# EAGLE library part MS5611 (library misc)
BAROMETRIC PRESSURE SENSOR
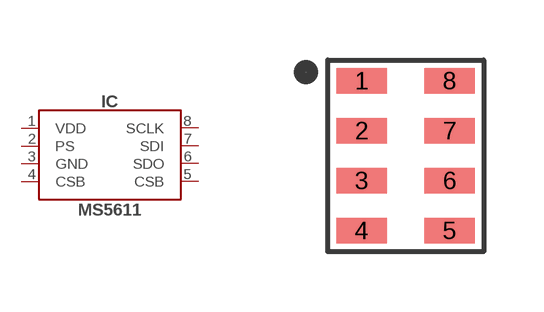
[diagram p39: symbol with the pads of MS5611; footprint MS5611]

Designator prefix IC

## MS5611 (DIGIKEY#: 223-1622-1-ND; MANF: TE Connectivity Measurement Specialties; MANF#: MS561101BA03-50)  [MS5611]
1  VDD
2  PS
3  GND
4  CSB
5  CSB
6  SDO
7  SDI
8  SCLK

## Footprint MS5611 (pad centres in mm)
3D model <https://grabcad.com/library/altimeter-pressure-sensors-1>
smd 1.27 x 0.635: 1 -1.1,1.875; 2 -1.1,0.625; 3 -1.1,-0.625; 4 -1.1,-1.875; 5 1.1,-1.875; 6 1.1,-0.625; 7 1.1,0.625; 8 1.1,1.875